# Altium footprint library Transformer, Pulse - Bourns, SM13126PEL.PcbLib: 1 footprints
Each footprint in its own frame and in the unit in brackets; x right, y up, seen from the top. Pads: shape width x height; smd on the part's side, far side on the other; paste and mask are expansions set on the pad; w line width, h text height; cw(c..) or ccw(c..) is an arc to the next point about the centre after c.
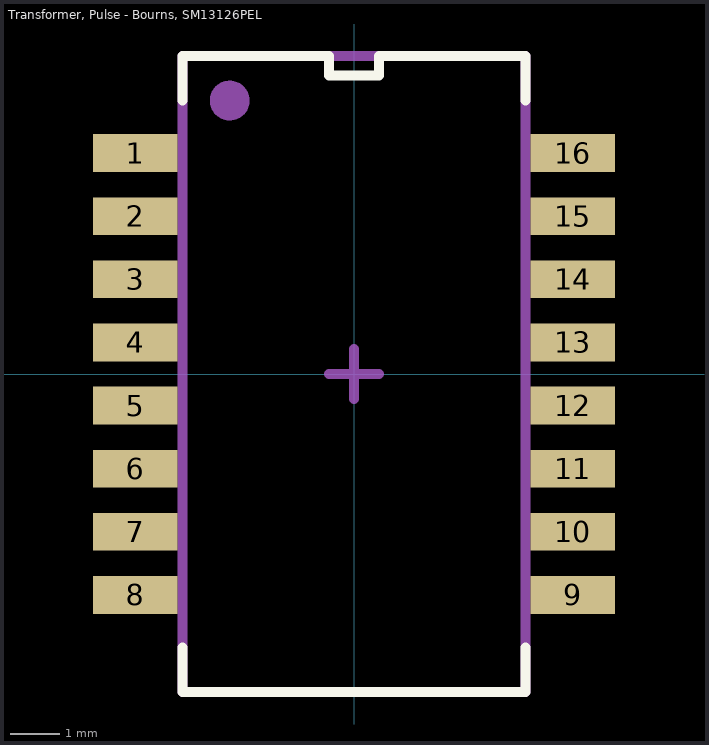
[diagram p0: the footprint, top view; thin cyan lines are the x and y axes]

## Transformer, Pulse - Bourns, SM13126PEL [mm] "Transformer, Pulse - Bourns, SM13126PEL"
height 5.65
pads (16):
  rect 1.7x0.76 smd mask+0.05: 1(-4.4,4.445) 2(-4.4,3.175) 3(-4.4,1.905) 4(-4.4,0.635) 5(-4.4,-0.635) 6(-4.4,-1.905) 7(-4.4,-3.175) 8(-4.4,-4.445) 9(4.4,-4.445) 10(4.4,-3.175) 11(4.4,-1.905) 12(4.4,-0.635) 13(4.4,0.635) 14(4.4,1.905) 15(4.4,3.175) 16(4.4,4.445)
Top Overlay:
  lines w0.2: -3.45,-5.5 -3.45,-6.4 3.45,-6.4 3.45,-5.5 ; -3.45,5.5 -3.45,6.4 -0.5,6.4 -0.5,6 0.5,6 0.5,6.4 3.45,6.4 3.45,5.5
Top Assembly:
  circle w0.4: c-2.5,5.5 r0.2
  lines w0.2: -3.45,-6.4 3.45,-6.4 3.45,6.4 -3.45,6.4 -3.45,-6.4
Top Designator:
  text ".Designator" at -2,-1.675 h1.2
Top Component Center:
  lines w0.2: -0.5,0 0.5,0 ; 0,-0.5 0,0.5
3D body "Transformer, Pulse - Bourns, SM13126PEL.step": height 5.65, standoff 0, extent -4.725,-6.4 4.725,6.4
3D body: height 5.6, standoff 2, extent -2.6,4.1 -1.2,5.5